# Altium schematic symbol library OKL-T_6-W12P-C.SchLib: 1 symbol
Pins are listed as number, name and electrical type; pins without a type are passive.

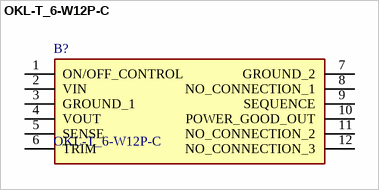
[diagram p0: symbol OKL-T_6-W12P-C]

## OKL-T_6-W12P-C
designator B?
MURATA POWER SOLUTIONS - OKL-T/6-W12P-C - DC-DC CONVERTER, 0.591V TO 5.5V, MODULE; Manufacturer_Name: Murata Electronics; Geometry.Height: 7.2mm; Mouser Part Number: 580-OKL-T/6-W12P-C; Mouser Price/Stock: https://www.mouser.co.uk/ProductDetail/Murata-Power-Solutions/OKL-T-6-W12P-C?qs=CxV9Ey7RZVdXGDAP%2FweYNg%3D%3D; Manufacturer_Part_Number: OKL-T/6-W12P-C; Datasheet Link: https://www.murata.com/products/productdata/8807038255134/okl-t6-w12.pdf?1583754815000
footprint OKLT6W12PC
pins: 1 ON/OFF_CONTROL, 2 VIN, 3 GROUND_1, 4 VOUT, 5 SENSE, 6 TRIM, 7 GROUND_2, 8 NO_CONNECTION_1, 9 SEQUENCE, 10 POWER_GOOD_OUT, 11 NO_CONNECTION_2, 12 NO_CONNECTION_3